# Altium schematic symbol library tubebase.SchLib: 1 symbol
Pins are listed as number, name and electrical type; pins without a type are passive.

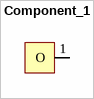
[diagram p0: symbol Component_1]

## Component_1
designator tube, comment tube  (value not drawn)
footprint PCBComponent_1
pins: 1 O